# Altium integrated library Altium_WE-PPTI (rev24c) (1).IntLib: 69 symbols (part 2 of 2)
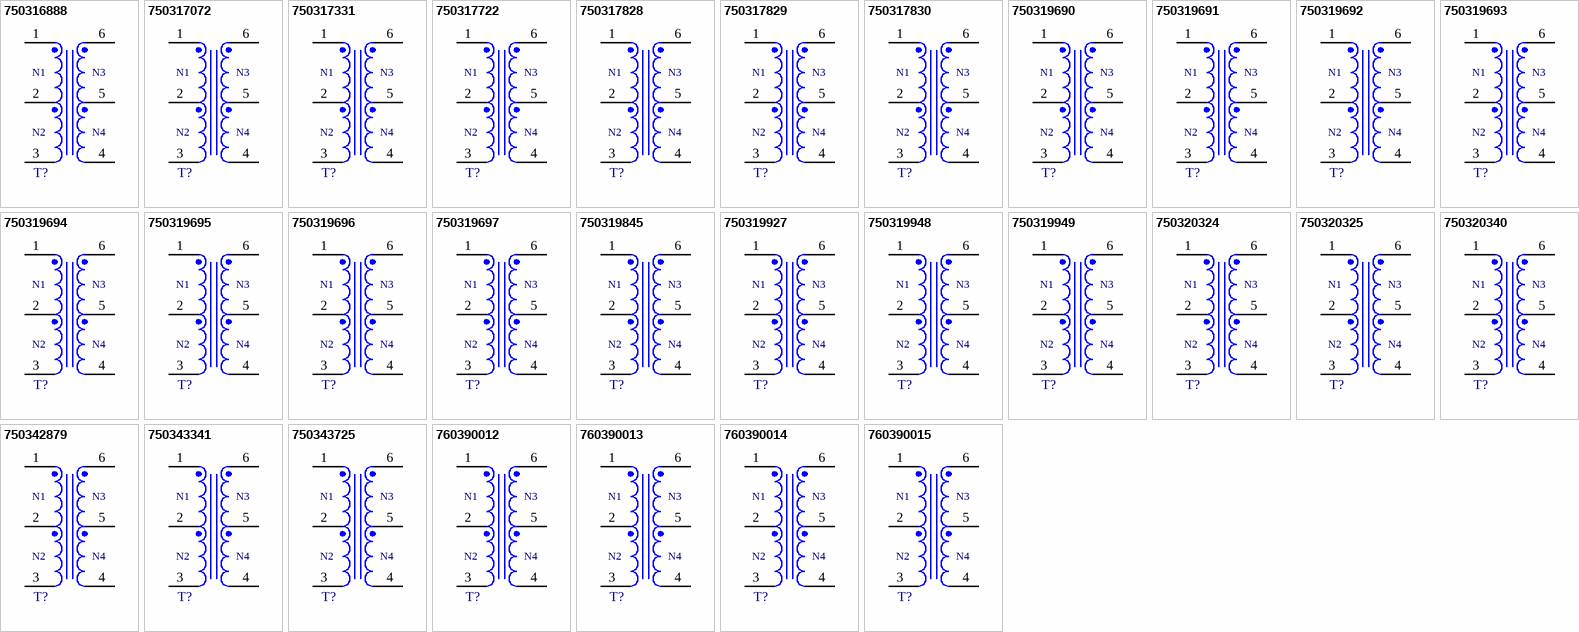
[diagram p2: symbols 750316888 to 760390015]

## 750319694
designator T?  (value not drawn)
WE-PPTI Push-Pull Transformer, SMT, size 1308, Ui = 24V, Uo = 5V / 0.75A; Manufacturer: Wurth Elektronik; Case/Size Code: 1308; Inductance: 600uH; Input Voltage: 24VDC; Insulation Test Voltage: 2500V (AC); Switching Frequency: 400-600kHz; Turns Ratio: 4:1; Voltage-Time: 52Vus; Manufacturer Part Number: 750319694; Category: Transformers For DC-DC Converter; Match Code: WE-PPTI; ComponentLink1Description: Website Link; ComponentLink1URL: https://www.we-online.com/redexpert/article/750319694?ad; ComponentLink2Description: Datasheet Link; ComponentLink2URL: https://www.we-online.com/redexpert/spec/750319694?ad; Mount: Surface Mount; Operating Temperature Max: 125°C; Operating Temperature Min: -40°C; Packaging: Tape and Reel; Length: 13.12mm; Width: 8.5mm; Height: 5.5mm; Output Current 1: 0.75A; Output Voltage 1: 5V
footprint WE-PPTI_1308_L13.12W8.5H5.5
pins: 1, 2, 3, 4, 5, 6
text: N1; N3; N2; N4

## 750319695
designator T?  (value not drawn)
WE-PPTI Push-Pull Transformer, SMT, size 1308, Ui = 24V, Uo = 12V / 0.5A; Manufacturer: Wurth Elektronik; Case/Size Code: 1308; Inductance: 600uH; Input Voltage: 24VDC; Insulation Test Voltage: 2500V (AC); Switching Frequency: 400-600kHz; Turns Ratio: 1.75:1; Voltage-Time: 46Vus; Manufacturer Part Number: 750319695; Category: Transformers For DC-DC Converter; Match Code: WE-PPTI; ComponentLink1Description: Website Link; ComponentLink1URL: https://www.we-online.com/redexpert/article/750319695?ad; ComponentLink2Description: Datasheet Link; ComponentLink2URL: https://www.we-online.com/redexpert/spec/750319695?ad; Mount: Surface Mount; Operating Temperature Max: 125°C; Operating Temperature Min: -40°C; Packaging: Tape and Reel; Length: 13.12mm; Width: 8.5mm; Height: 5.5mm; Output Current 1: 0.5A; Output Voltage 1: 12V
footprint WE-PPTI_1308_L13.12W8.5H5.5
pins: 1, 2, 3, 4, 5, 6
text: N1; N3; N2; N4

## 750319696
designator T?  (value not drawn)
WE-PPTI Push-Pull Transformer, SMT, size 1308, Ui = 24V, Uo = 15V / 0.4A; Manufacturer: Wurth Elektronik; Case/Size Code: 1308; Inductance: 500uH; Input Voltage: 24VDC; Insulation Test Voltage: 2500V (AC); Switching Frequency: 400-600kHz; Turns Ratio: 1.4:1; Voltage-Time: 46Vus; Manufacturer Part Number: 750319696; Category: Transformers For DC-DC Converter; Match Code: WE-PPTI; ComponentLink1Description: Website Link; ComponentLink1URL: https://www.we-online.com/redexpert/article/750319696?ad; ComponentLink2Description: Datasheet Link; ComponentLink2URL: https://www.we-online.com/redexpert/spec/750319696?ad; Mount: Surface Mount; Operating Temperature Max: 125°C; Operating Temperature Min: -40°C; Packaging: Tape and Reel; Length: 13.12mm; Width: 8.5mm; Height: 5.5mm; Output Current 1: 0.4A; Output Voltage 1: 15V
footprint WE-PPTI_1308_L13.12W8.5H5.5
pins: 1, 2, 3, 4, 5, 6
text: N1; N3; N2; N4

## 750319697
designator T?  (value not drawn)
WE-PPTI Push-Pull Transformer, SMT, size 1308, Ui = 24V, Uo = 24V / 0.25A; Manufacturer: Wurth Elektronik; Case/Size Code: 1308; Inductance: 500uH; Input Voltage: 24VDC; Insulation Test Voltage: 2500V (AC); Switching Frequency: 400-600kHz; Turns Ratio: 1:1.07; Voltage-Time: 46Vus; Manufacturer Part Number: 750319697; Category: Transformers For DC-DC Converter; Match Code: WE-PPTI; ComponentLink1Description: Website Link; ComponentLink1URL: https://www.we-online.com/redexpert/article/750319697?ad; ComponentLink2Description: Datasheet Link; ComponentLink2URL: https://www.we-online.com/redexpert/spec/750319697?ad; Mount: Surface Mount; Operating Temperature Max: 125°C; Operating Temperature Min: -40°C; Packaging: Tape and Reel; Length: 13.12mm; Width: 8.5mm; Height: 5.5mm; Output Current 1: 0.25A; Output Voltage 1: 24V
footprint WE-PPTI_1308_L13.12W8.5H5.5
pins: 1, 2, 3, 4, 5, 6
text: N1; N3; N2; N4

## 750319845
designator T?  (value not drawn)
WE-PPTI Push-Pull Transformer, SMT, size 1209, Ui = 3.3V, Uo = 5V / 0.65A; Manufacturer: Wurth Elektronik; Case/Size Code: 1209; Inductance: 340uH; Input Voltage: 3.3VDC; Insulation Test Voltage: 5000V (RMS); Switching Frequency: 250 - 550kHz; Turns Ratio: 1:1.56; Voltage-Time: 11Vus; Manufacturer Part Number: 750319845; Category: Transformers For DC-DC Converter; Match Code: WE-PPTI; ComponentLink1Description: Website Link; ComponentLink1URL: https://www.we-online.com/redexpert/article/750319845?ad; ComponentLink2Description: Datasheet Link; ComponentLink2URL: https://www.we-online.com/redexpert/spec/750319845?ad; Mount: Surface Mount; Operating Temperature Max: 125°C; Operating Temperature Min: -40°C; Packaging: Tape and Reel; Length: 12.7mm; Width: 9.14mm; Height: 7.62mm; Output Current 1: 0.65A; Output Voltage 1: 5V
footprint WE-PPTI_1209_L12.7W9.14H7.62
pins: 1, 2, 3, 4, 5, 6
text: N1; N3; N2; N4

## 750319927
designator T?  (value not drawn)
WE-PPTI Push-Pull Transformer, SMT, size 1512, Ui = 4.5V, Uo = 2.5V / 1.7A; Manufacturer: Wurth Elektronik; Case/Size Code: 1512; Inductance: 570uH; Input Voltage: 4.5VDC; Insulation Test Voltage: 5000V (AC); Switching Frequency: 150kHz; Turns Ratio: 2:1; Voltage-Time: 50Vus; Manufacturer Part Number: 750319927; Category: Transformers For DC-DC Converter; Match Code: WE-PPTI; ComponentLink1Description: Website Link; ComponentLink1URL: https://www.we-online.com/redexpert/article/750319927?ad; ComponentLink2Description: Datasheet Link; ComponentLink2URL: https://www.we-online.com/redexpert/spec/750319927?ad; Mount: Surface Mount; Operating Temperature Max: 125°C; Operating Temperature Min: -40°C; Packaging: Tape and Reel; Length: 15.41mm; Width: 12.32mm; Height: 11.89mm; Output Current 1: 1.7A; Output Voltage 1: 2.5V
footprint WE-PPTI_1512_L15.41W12.32H11.89
pins: 1, 2, 3, 4, 5, 6
text: N1; N3; N2; N4

## 750319948
designator T?  (value not drawn)
WE-PPTI Push-Pull Transformer, SMT, size 1308, Ui = 24V, Uo = 30V / 0.2A; Manufacturer: Wurth Elektronik; Case/Size Code: 1308; Inductance: 600uH; Input Voltage: 24VDC; Insulation Test Voltage: 2500V (AC); Switching Frequency: 400-600kHz; Turns Ratio: 1:1.36; Voltage-Time: 46Vus; Manufacturer Part Number: 750319948; Category: Transformers For DC-DC Converter; Match Code: WE-PPTI; ComponentLink1Description: Website Link; ComponentLink1URL: https://www.we-online.com/redexpert/article/750319948?ad; ComponentLink2Description: Datasheet Link; ComponentLink2URL: https://www.we-online.com/redexpert/spec/750319948?ad; Mount: Surface Mount; Operating Temperature Max: 125°C; Operating Temperature Min: -40°C; Packaging: Tape and Reel; Length: 13.12mm; Width: 8.5mm; Height: 5.5mm; Output Current 1: 0.2A; Output Voltage 1: 30V
footprint WE-PPTI_1308_L13.12W8.5H5.5
pins: 1, 2, 3, 4, 5, 6
text: N1; N3; N2; N4

## 750319949
designator T?  (value not drawn)
WE-PPTI Push-Pull Transformer, SMT, size 1308, Ui = 12V, Uo = 30V / 0.25A; Manufacturer: Wurth Elektronik; Case/Size Code: 1308; Inductance: 350uH; Input Voltage: 12VDC; Insulation Test Voltage: 2500V (AC); Switching Frequency: 400-600kHz; Turns Ratio: 1:2.75; Voltage-Time: 38Vus; Manufacturer Part Number: 750319949; Category: Transformers For DC-DC Converter; Match Code: WE-PPTI; ComponentLink1Description: Website Link; ComponentLink1URL: https://www.we-online.com/redexpert/article/750319949?ad; ComponentLink2Description: Datasheet Link; ComponentLink2URL: https://www.we-online.com/redexpert/spec/750319949?ad; Mount: Surface Mount; Operating Temperature Max: 125°C; Operating Temperature Min: -40°C; Packaging: Tape and Reel; Length: 13.12mm; Width: 8.5mm; Height: 5.5mm; Output Current 1: 0.25A; Output Voltage 1: 30V
footprint WE-PPTI_1308_L13.12W8.5H5.5
pins: 1, 2, 3, 4, 5, 6
text: N1; N3; N2; N4

## 750320324
designator T?  (value not drawn)
WE-PPTI Push-Pull Transformer, SMT, size 1308, Ui = 12V, Uo = 3.3V / 1.1A; Manufacturer: Wurth Elektronik; Case/Size Code: 1308; Inductance: 450uH; Input Voltage: 12VDC; Insulation Test Voltage: 2500V (AC); Switching Frequency: 400-600kHz; Turns Ratio: 2.4:1; Voltage-Time: 38Vus; Manufacturer Part Number: 750320324; Category: Transformers For DC-DC Converter; Match Code: WE-PPTI; ComponentLink1Description: Website Link; ComponentLink1URL: https://www.we-online.com/redexpert/article/750320324?ad; ComponentLink2Description: Datasheet Link; ComponentLink2URL: https://www.we-online.com/redexpert/spec/750320324?ad; Mount: Surface Mount; Operating Temperature Max: 125°C; Operating Temperature Min: -40°C; Packaging: Tape and Reel; Length: 13.12mm; Width: 8.5mm; Height: 5.5mm; Output Current 1: 1.1A; Output Voltage 1: 3.3V
footprint WE-PPTI_1308_L13.12W8.5H5.5
pins: 1, 2, 3, 4, 5, 6
text: N1; N3; N2; N4

## 750320325
designator T?  (value not drawn)
WE-PPTI Push-Pull Transformer, SMT, size 1308, Ui = 24V, Uo = 3.3V / 1A; Manufacturer: Wurth Elektronik; Case/Size Code: 1308; Inductance: 700uH; Input Voltage: 24VDC; Insulation Test Voltage: 2500V (AC); Switching Frequency: 400-600kHz; Turns Ratio: 5.33:1; Voltage-Time: 50Vus; Manufacturer Part Number: 750320325; Category: Transformers For DC-DC Converter; Match Code: WE-PPTI; ComponentLink1Description: Website Link; ComponentLink1URL: https://www.we-online.com/redexpert/article/750320325?ad; ComponentLink2Description: Datasheet Link; ComponentLink2URL: https://www.we-online.com/redexpert/spec/750320325?ad; Mount: Surface Mount; Operating Temperature Max: 125°C; Operating Temperature Min: -40°C; Packaging: Tape and Reel; Length: 13.12mm; Width: 8.5mm; Height: 5.5mm; Output Current 1: 1A; Output Voltage 1: 3.3V
footprint WE-PPTI_1308_L13.12W8.5H5.5
pins: 1, 2, 3, 4, 5, 6
text: N1; N3; N2; N4

## 750320340
designator T?  (value not drawn)
WE-PPTI Push-Pull Transformer, SMT, size 1209, Ui = 5V, Uo = 17V / 0.25A; Manufacturer: Wurth Elektronik; Case/Size Code: 1209; Inductance: 200uH; Input Voltage: 5VDC; Insulation Test Voltage: 6000V (AC); Switching Frequency: 220kHz; Turns Ratio: 1:3.5; Voltage-Time: 16Vus; Manufacturer Part Number: 750320340; Category: Transformers For DC-DC Converter; Match Code: WE-PPTI; ComponentLink1Description: Website Link; ComponentLink1URL: https://www.we-online.com/redexpert/article/750320340?ad; ComponentLink2Description: Datasheet Link; ComponentLink2URL: https://www.we-online.com/redexpert/spec/750320340?ad; Mount: Surface Mount; Operating Temperature Max: 125°C; Operating Temperature Min: -40°C; Packaging: Tape and Reel; Length: 12.7mm; Width: 9.14mm; Height: 7.62mm; Output Current 1: 0.25A; Output Voltage 1: 17V
footprint WE-PPTI_1209_L12.7W9.14H7.62
pins: 1, 2, 3, 4, 5, 6
text: N1; N3; N2; N4

## 750342879
designator T?  (value not drawn)
WE-PPTI Push-Pull Transformer, SMT, size 1209, Ui = 5V, Uo = 17V / 0.25A; Manufacturer: Wurth Elektronik; Case/Size Code: 1209; Inductance: 200uH; Input Voltage: 5VDC; Insulation Test Voltage: 5000V (RMS); Switching Frequency: 420kHz; Turns Ratio: 1:3.5; Type of Insulation: Reinforced; Voltage-Time: 9Vus; Manufacturer Part Number: 750342879; Category: Transformers For DC-DC Converter; Match Code: WE-PPTI; ComponentLink1Description: Website Link; ComponentLink1URL: https://www.we-online.com/redexpert/article/750342879?ad; ComponentLink2Description: Datasheet Link; ComponentLink2URL: https://www.we-online.com/redexpert/spec/750342879?ad; Mount: Surface Mount; Operating Temperature Max: 125°C; Operating Temperature Min: -40°C; Packaging: Tape and Reel; Length: 12.7mm; Width: 9.14mm; Height: 7.62mm; Output Current 1: 0.25A; Output Voltage 1: 17V
footprint WE-PPTI_1209_L12.7W9.14H7.62
pins: 1, 2, 3, 4, 5, 6
text: N1; N3; N2; N4

## 750343341
designator T?  (value not drawn)
WE-PPTI Push-Pull Transformer, SMT, size 1209, Ui = 5V, Uo = 12.5V / 0.35A; Manufacturer: Wurth Elektronik; Case/Size Code: 1209; Inductance: 76uH; Input Voltage: 5VDC; Insulation Test Voltage: 5000V (RMS); Switching Frequency: 400kHz; Turns Ratio: 1:2.6; Type of Insulation: Reinforced; Voltage-Time: 7.8Vus; Manufacturer Part Number: 750343341; Category: Transformers For DC-DC Converter; Match Code: WE-PPTI; ComponentLink1Description: Website Link; ComponentLink1URL: https://www.we-online.com/redexpert/article/750343341?ad; ComponentLink2Description: Datasheet Link; ComponentLink2URL: https://www.we-online.com/redexpert/spec/750343341?ad; Mount: Surface Mount; Operating Temperature Max: 125°C; Operating Temperature Min: -40°C; Packaging: Tape and Reel; Length: 12.7mm; Width: 9.14mm; Height: 7.62mm; Output Current 1: 0.35A; Output Voltage 1: 12.5V
footprint WE-PPTI_1209_L12.7W9.14H7.62
pins: 1, 2, 3, 4, 5, 6
text: N1; N3; N2; N4

## 750343725
designator T?  (value not drawn)
WE-PPTI Push-Pull Transformer, SMT, size 1209, Ui = 5V, Uo = 19.5V / 0.25A; Manufacturer: Wurth Elektronik; Case/Size Code: 1209; Inductance: 250uH; Input Voltage: 5VDC; Insulation Test Voltage: 5000V (RMS); Switching Frequency: 420kHz; Turns Ratio: 1:3.9; Type of Insulation: Reinforced; Voltage-Time: 9Vus; Manufacturer Part Number: 750343725; Category: Transformers For DC-DC Converter; Match Code: WE-PPTI; ComponentLink1Description: Website Link; ComponentLink1URL: https://www.we-online.com/redexpert/article/750343725?ad; ComponentLink2Description: Datasheet Link; ComponentLink2URL: https://www.we-online.com/redexpert/spec/750343725?ad; Mount: Surface Mount; Operating Temperature Max: 125°C; Operating Temperature Min: -40°C; Packaging: Tape and Reel; Length: 12.7mm; Width: 9.14mm; Height: 7.62mm; Output Current 1: 0.25A; Output Voltage 1: 19.5V
footprint WE-PPTI_1209_L12.7W9.14H7.62
pins: 1, 2, 3, 4, 5, 6
text: N1; N3; N2; N4

## 760390012
designator T?  (value not drawn)
WE-PPTI Push-Pull Transformer, SMT, size 1006, Ui = 5V, Uo = 5V / 0.75A; Manufacturer: Wurth Elektronik; Case/Size Code: 1006; Inductance: 475uH; Input Voltage: 5VDC; Insulation Test Voltage: 2500V (AC); Switching Frequency: 300 - 620kHz; Turns Ratio: 1:1.1; Type of Insulation: Functional; Voltage-Time: 11Vus; Manufacturer Part Number: 760390012; Category: Transformers For DC-DC Converter; Match Code: WE-PPTI; ComponentLink1Description: Website Link; ComponentLink1URL: https://www.we-online.com/redexpert/article/760390012?ad; ComponentLink2Description: Datasheet Link; ComponentLink2URL: https://www.we-online.com/redexpert/spec/760390012?ad; Mount: Surface Mount; Operating Temperature Max: 125°C; Operating Temperature Min: -40°C; Packaging: Tape and Reel; Length: 10.2mm; Width: 6.73mm; Height: 4.19mm; Output Current 1: 0.75A; Output Voltage 1: 5V
footprint WE-PPTI_1006_L10.2W6.73H4.19
pins: 1, 2, 3, 4, 5, 6
text: N1; N3; N2; N4

## 760390013
designator T?  (value not drawn)
WE-PPTI Push-Pull Transformer, SMT, size 1006, Ui = 3.3V, Uo = 5V / 0.5A; Manufacturer: Wurth Elektronik; Case/Size Code: 1006; Inductance: 475uH; Input Voltage: 3.3VDC; Insulation Test Voltage: 2500V (AC); Switching Frequency: 250 - 550kHz; Turns Ratio: 1:1.7; Type of Insulation: Functional; Voltage-Time: 11Vus; Manufacturer Part Number: 760390013; Category: Transformers For DC-DC Converter; Match Code: WE-PPTI; ComponentLink1Description: Website Link; ComponentLink1URL: https://www.we-online.com/redexpert/article/760390013?ad; ComponentLink2Description: Datasheet Link; ComponentLink2URL: https://www.we-online.com/redexpert/spec/760390013?ad; Mount: Surface Mount; Operating Temperature Max: 125°C; Operating Temperature Min: -40°C; Packaging: Tape and Reel; Length: 10.2mm; Width: 6.73mm; Height: 4.19mm; Output Current 1: 0.5A; Output Voltage 1: 5V
footprint WE-PPTI_1006_L10.2W6.73H4.19
pins: 1, 2, 3, 4, 5, 6
text: N1; N3; N2; N4

## 760390014
designator T?  (value not drawn)
WE-PPTI Push-Pull Transformer, SMT, size 1006, Ui = 5V, Uo = 5V / 0.6A; Manufacturer: Wurth Elektronik; Case/Size Code: 1006; Inductance: 475uH; Input Voltage: 5VDC; Insulation Test Voltage: 2500V (AC); Switching Frequency: 300 - 620kHz; Turns Ratio: 1:1.3; Type of Insulation: Functional; Voltage-Time: 11Vus; Manufacturer Part Number: 760390014; Category: Transformers For DC-DC Converter; Match Code: WE-PPTI; ComponentLink1Description: Website Link; ComponentLink1URL: https://www.we-online.com/redexpert/article/760390014?ad; ComponentLink2Description: Datasheet Link; ComponentLink2URL: https://www.we-online.com/redexpert/spec/760390014?ad; Mount: Surface Mount; Operating Temperature Max: 125°C; Operating Temperature Min: -40°C; Packaging: Tape and Reel; Length: 10.2mm; Width: 6.73mm; Height: 4.19mm; Output Current 1: 0.6A; Output Voltage 1: 5V
footprint WE-PPTI_1006_L10.2W6.73H4.19
pins: 1, 2, 3, 4, 5, 6
text: N1; N3; N2; N4

## 760390015
designator T?  (value not drawn)
WE-PPTI Push-Pull Transformer, SMT, size 1006, Ui = 3.3V, Uo = 5V / 0.45A; Manufacturer: Wurth Elektronik; Case/Size Code: 1006; Inductance: 475uH; Input Voltage: 3.3VDC; Insulation Test Voltage: 2500V (AC); Switching Frequency: 250 - 550kHz; Turns Ratio: 1:2; Type of Insulation: Functional; Voltage-Time: 11Vus; Manufacturer Part Number: 760390015; Category: Transformers For DC-DC Converter; Match Code: WE-PPTI; ComponentLink1Description: Website Link; ComponentLink1URL: https://www.we-online.com/redexpert/article/760390015?ad; ComponentLink2Description: Datasheet Link; ComponentLink2URL: https://www.we-online.com/redexpert/spec/760390015?ad; Mount: Surface Mount; Operating Temperature Max: 125°C; Operating Temperature Min: -40°C; Packaging: Tape and Reel; Length: 10.2mm; Width: 6.73mm; Height: 4.19mm; Output Current 1: 0.45A; Output Voltage 1: 5V
footprint WE-PPTI_1006_L10.2W6.73H4.19
pins: 1, 2, 3, 4, 5, 6
text: N1; N3; N2; N4